# EAGLE library part ZDT1053 (library kwoo)
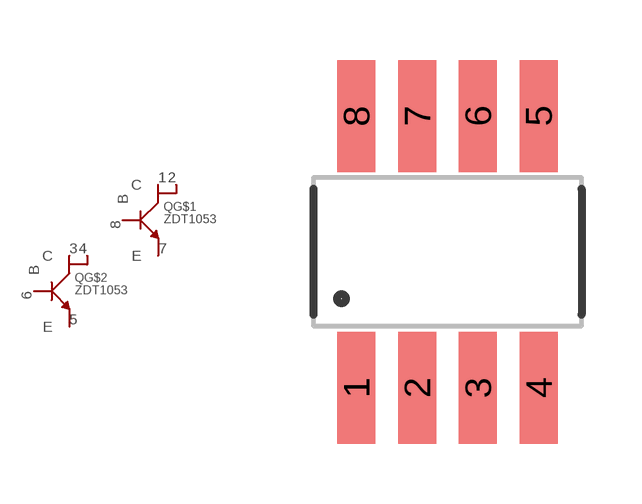
[diagram p28: symbol with the pads of SOT223-8; footprint SOT223-8]

Designator prefix Q; gates G$1=NPN_TRANSISTOR_4PIN G$2=NPN_TRANSISTOR_4PIN

## ZDT1053  [SOT223-8]
1  G$1:C
2  G$1:C1
3  G$2:C
4  G$2:C1
5  G$2:E
6  G$2:B
7  G$1:E
8  G$1:B

## Footprint SOT223-8 (pad centres in mm)
smd 0.95 x 2.8: 1 -2.28,-3.4; 2 -0.76,-3.4; 3 0.76,-3.4; 4 2.28,-3.4; 5 2.28,3.4; 6 0.76,3.4; 7 -0.76,3.4; 8 -2.28,3.4